# Altium footprint library WS485H-V5_RS.PcbLib: 34 footprints (part 3 of 3)
Each footprint in its own frame and in the unit in brackets; x right, y up, seen from the top. Pads: shape width x height; smd on the part's side, far side on the other; paste and mask are expansions set on the pad; w line width, h text height; cw(c..) or ccw(c..) is an arc to the next point about the centre after c.
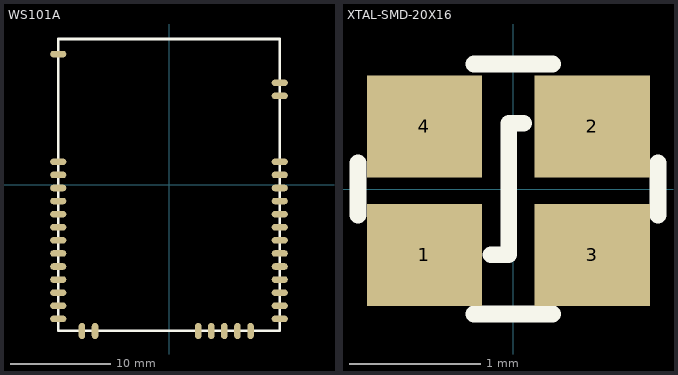
[diagram p2: the footprints below, top view; thin cyan lines are the x and y axes]

## WS101A [mm] "Vertexcom"
pads (36):
  oval 1.6x0.65 smd: 1(-11,13) 2(-11,2.3) 3(-11,1) 4(-11,-0.3) 5(-11,-1.6) 6(-11,-2.9) 7(-11,-4.2) 8(-11,-5.5) 9(-11,-6.8) 10(-11,-8.1) 11(-11,-9.4) 12(-11,-10.7) 13(-11,-12) 14(-11,-13.3) 22(11,-13.3) 23(11,-12) 24(11,-10.7) 25(11,-9.4) 26(11,-8.1) 27(11,-6.8) 28(11,-5.5) 29(11,-4.2) 30(11,-2.9) 31(11,-1.6) 32(11,-0.3) 33(11,1) 34(11,2.3) 35(11,8.85) 36(11,10.15)
  oval 0.65x1.6 smd: 15(-8.65,-14.5) 16(-7.35,-14.5) 17(2.9,-14.5) 18(4.2,-14.5) 19(5.5,-14.5) 20(6.8,-14.5) 21(8.1,-14.5)
Top Overlay:
  lines w0.254: -11,-14.5 -11,14.5 11,14.5 11,-14.5 -11,-14.5

## XTAL-SMD-20X16 [mm] "XTAL-SMD-20X16"
pads (4):
  rect 0.875x0.775 smd: 1(-0.675,-0.5) 2(0.6,0.475) 3(0.6,-0.5) 4(-0.675,0.475)
Top Overlay:
  lines w0.127: -1.18,-0.2 -1.18,0.2 ; -0.3,-0.95 0.3,-0.95 ; -0.3,0.95 0.3,0.95 ; -0.17,-0.5 -0.035,-0.5 -0.035,0.5 0.08,0.5 ; 1.1,-0.2 1.1,0.2